# Altium footprint library stm8电机控制原理图.PcbLib: 34 footprints (part 1 of 3)
Each footprint in its own frame and in the unit in brackets; x right, y up, seen from the top. Pads: shape width x height; smd on the part's side, far side on the other; paste and mask are expansions set on the pad; w line width, h text height; cw(c..) or ccw(c..) is an arc to the next point about the centre after c.
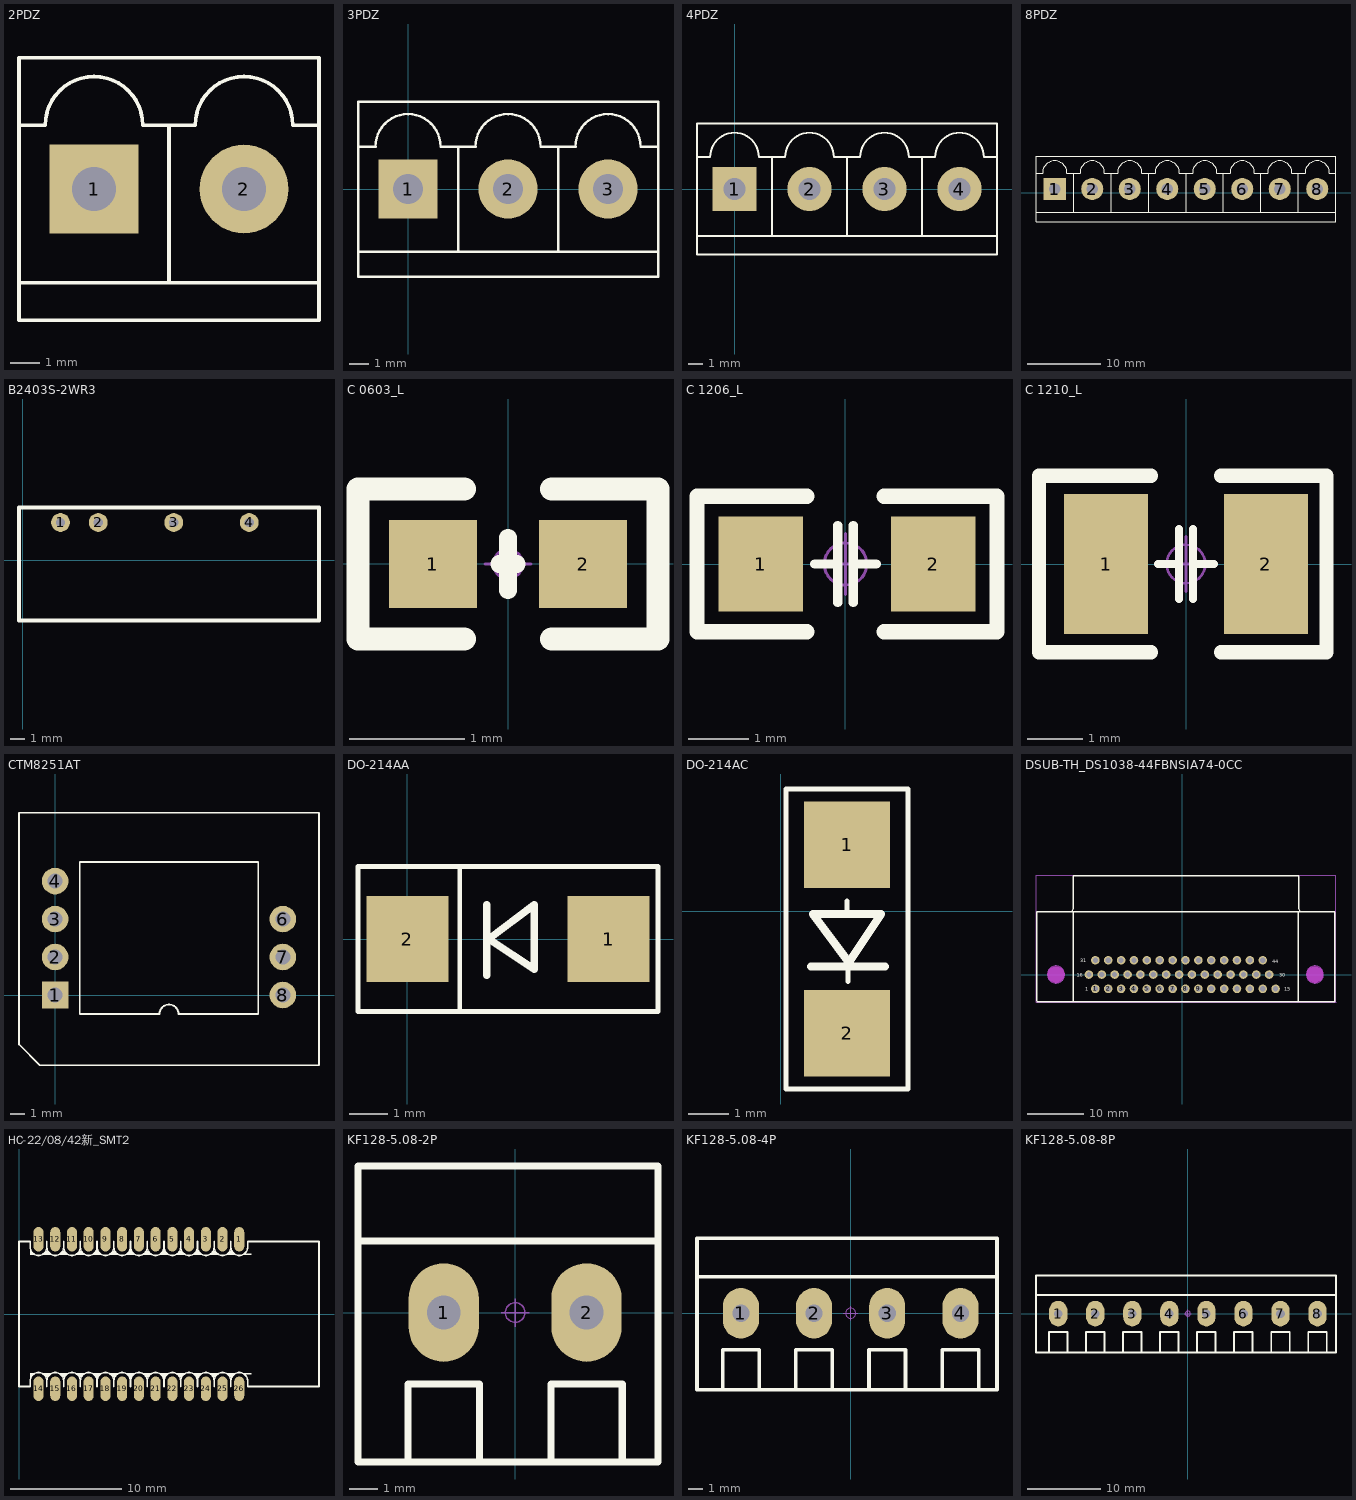
[diagram p0: the footprints below, top view; thin cyan lines are the x and y axes]

## 2PDZ [mm]
pads (2):
  rect 3x3 hole 1.5: 1(4.318,-8.763)
  round 3 hole 1.5: 2(9.398,-8.763)
Top Overlay:
  lines w0.127: 1.778,-11.938 6.858,-11.938 ; 1.778,-6.604 2.667,-6.604 cw(c4.318,-6.604) 5.969,-6.604 6.858,-6.604 ; 11.938,-11.938 6.858,-11.938 ; 11.938,-6.604 11.049,-6.604 ccw(c9.398,-6.604) 7.747,-6.604 6.858,-6.604 ; 6.858,-11.938 6.858,-6.604 ; 1.778,-13.208 1.778,-8.763 1.778,-4.318 11.938,-4.318 11.938,-13.208 1.778,-13.208

## 3PDZ [mm]
pads (3):
  rect 3x3 hole 1.5: 1(0,0)
  round 3 hole 1.5: 2(5.08,0) 3(10.16,0)
Top Overlay:
  lines w0.127: -2.54,-3.175 2.54,-3.175 ; -2.54,2.159 -1.651,2.159 cw(c0,2.159) 1.651,2.159 2.54,2.159 ; 7.62,-3.175 7.62,2.159 ; 2.54,-3.175 12.7,-3.175 ; 2.54,-3.175 2.54,2.159 ; 2.54,2.159 3.429,2.159 cw(c5.08,2.159) 6.731,2.159 8.509,2.159 cw(c10.16,2.159) 11.811,2.159 12.7,2.159 ; 12.7,-3.175 12.7,-4.445 -2.54,-4.445 -2.54,0 -2.54,4.445 12.7,4.445 12.7,2.159 ; 12.7,-3.175 12.7,2.159

## 4PDZ [mm]
pads (4):
  rect 3x3 hole 1.5: 1(0,0)
  round 3 hole 1.5: 2(5.08,0) 3(10.16,0) 4(15.24,0)
Top Overlay:
  lines w0.127: -2.54,-3.175 17.78,-3.175 ; -2.54,2.159 -1.651,2.159 cw(c0,2.159) 1.651,2.159 2.54,2.159 ; 2.54,-3.175 2.54,2.159 ; 7.62,-3.175 7.62,2.159 ; 12.7,-3.175 12.7,2.159 ; 17.78,2.159 16.891,2.159 ccw(c15.24,2.159) 13.589,2.159 11.811,2.159 ccw(c10.16,2.159) 8.509,2.159 6.731,2.159 ccw(c5.08,2.159) 3.429,2.159 2.54,2.159 ; -2.54,-4.445 -2.54,0 -2.54,4.445 17.78,4.445 17.78,-4.445 -2.54,-4.445

## 8PDZ [mm]
pads (8):
  rect 3x3 hole 1.5: 1(17.78,0.508)
  round 3 hole 1.5: 2(22.86,0.508) 3(27.94,0.508) 4(33.02,0.508) 5(38.1,0.508) 6(43.18,0.508) 7(48.26,0.508) 8(53.34,0.508)
Top Overlay:
  lines w0.127: 15.24,-2.667 35.56,-2.667 ; 15.24,2.667 16.129,2.667 cw(c17.78,2.667) 19.431,2.667 20.32,2.667 ; 20.32,-2.667 20.32,2.667 ; 25.4,-2.667 25.4,2.667 ; 30.48,-2.667 30.48,2.667 ; 40.64,-2.667 40.64,2.667 ; 45.72,-2.667 45.72,2.667 ; 50.8,-2.667 50.8,2.667 ; 55.88,-2.667 35.56,-2.667 ; 55.88,2.667 54.991,2.667 ccw(c53.34,2.667) 51.689,2.667 49.911,2.667 ccw(c48.26,2.667) 46.609,2.667 44.831,2.667 ccw(c43.18,2.667) 41.529,2.667 40.64,2.667 ; 20.32,2.667 21.209,2.667 cw(c22.86,2.667) 24.511,2.667 26.289,2.667 cw(c27.94,2.667) 29.591,2.667 31.369,2.667 cw(c33.02,2.667) 34.671,2.667 35.56,2.667 ; 35.56,-2.667 35.56,2.667 ; 35.56,2.667 36.449,2.667 cw(c38.1,2.667) 39.751,2.667 40.64,2.667 ; 15.24,-3.937 35.56,-3.937 55.88,-3.937 55.88,4.953 35.56,4.953 15.24,4.953 15.24,0.508 15.24,-3.937

## B2403S-2WR3 [mil]
pads (4):
  round 50 hole 25: 1(100,100) 2(200,100) 3(400,100) 4(600,100)
Top Overlay:
  lines w10: -10,-160 -10,140 785,140 785,-160 -10,-160
3D body "B2403S-2WR3.STEP": height 374.02, standoff -161.42, extent 1.14,-147.79 768.86,127.8

## C 0603_L [mil]
height 322.83
pads (2):
  rect 30x30 smd: 1(-25.59,0) 2(25.59,0)
Top Overlay:
  lines w6: -3,0 0,0 3,0 ; 0,-9 0,9
  lines w8: -15,-25.59 -51.18,-25.59 -51.18,25.59 -15,25.59 ; 15,-25.59 51.18,-25.59 51.18,25.59 15,25.59
Mechanical 15:
  circle w1: c0,0 r5
  lines w1: -7.87,0 7.87,0 ; 0,-7.87 0,7.87
3D body "C 0603.STEP": height 31.89, standoff -0.39, extent -31.5,-16.14 31.5,16.14

## C 1206_L [mil] "无极性贴片电容"
height 322.83
pads (2):
  rect 55x62 smd: 1(-55.12,0) 2(57.09,0)
Top Overlay:
  lines w6: -20,0 -5,0 ; -5,-25 -5,25 ; 5,-25 5,25 ; 5,0 20,0
  lines w10: -25,-44 -96.46,-44 -96.46,44 -25,44 ; 25,-44 96.46,-44 ; 25,44 96.46,44 ; 98.43,-44 98.43,44
Mechanical 15:
  circle w1.97: c0,0 r13.78
  lines w1.97: -19.68,0 19.68,0 ; 0,-19.68 0,19.68
3D body "C 1206.STEP": height 47.64, standoff -0.39, extent -62.99,-31.89 62.99,31.89

## C 1210_L [mil] "无极性贴片电容"
height 322.83
pads (2):
  rect 60x100 smd: 1(-57.09,0) 2(57.09,0)
Top Overlay:
  lines w6: -20,0 -5,0 ; -5,-25 -5,25 ; 5,-25 5,25 ; 5,0 20,0
  lines w10: -25,-63 -105,-63 -105,63 -25,63 ; 25,-63 100.39,-63 100.39,63 25,63
Mechanical 15:
  circle w1.97: c0,0 r13.78
  lines w1.97: -19.68,0 19.68,0 ; 0,-19.68 0,19.68
3D body "C 1210.STEP": height 60.43, standoff 0.2, extent -62.99,-50.59 62.99,50.59

## CTM8251AT [mil]
pads (7):
  rect 70x70 hole 40: 1(0,0)
  round 70 hole 40: 2(0,100) 3(0,200) 4(0,300) 6(600,200) 7(600,100) 8(600,0)
Top Overlay:
  lines w5: -95,-130 -95,480 -5,480 695,480 695,-185 -40,-185 -95,-130 ; 65,-50 275,-50 cw(c300,-50) 325,-50 535,-50 535,350 325,350 275,350 65,350 65,-50

## DO-214AA [mm]
pads (2):
  rect 2.16x2.26 smd: 1(5.3,0) 2(0,0)
Top Overlay:
  lines w0.127: 1.38,-1.905 1.38,1.905 ; -1.3,-1.905 -1.3,1.905 6.6,1.905 6.6,-1.905 -1.3,-1.905
  lines w0.2: 2.092,-0.95 2.092,0.9 ; 2.142,0 3.342,0.9 3.342,-0.8 2.142,0

## DO-214AC [mil]
pads (2):
  rect 85x85 smd: 1(65,65) 2(65,-120)
Top Overlay:
  lines w5: 65,-3.15 65,10 ; 65.98,-69.02 65.98,-54.33 ; 5,-175 125,-175 125,115 125,120 5,120 5,115 5,-175
  lines w7.87: 29.57,-54.33 102.4,-54.33 ; 31.54,-3.15 66.97,-50.39 98.47,-3.15 31.54,-3.15

## DSUB-TH_DS1038-44FBNSIA74-0CC [mil]
pads (44):
  round 60 hole 36 mask+2: 1(-608.6,-100) 2(-518.4,-100) 3(-428.3,-100) 4(-338.1,-100) 5(-247.9,-100) 6(-157.8,-100) 7(-67.6,-100) 8(22.5,-100) 9(112.7,-100) 10(202.9,-100) 11(293,-100) 12(383.2,-100) 13(473.3,-100) 14(563.5,-100) 15(653.6,-100) 16(-653.6,0) 17(-563.5,0) 18(-473.3,0) 19(-383.2,0) 20(-293,0) 21(-202.9,0) 22(-112.7,0) 23(-22.5,0) 24(67.6,0) 25(157.8,0) 26(247.9,0) 27(338.1,0) 28(428.3,0) 29(518.4,0) 30(608.6,0) 31(-608.6,100) 32(-518.4,100) 33(-428.2,100) 34(-338.1,100) 35(-247.9,100) 36(-157.8,100) 37(-67.6,100) 38(22.5,100) 39(112.7,100) 40(202.9,100) 41(293,100) 42(383.2,100) 43(473.3,100) 44(563.5,100)
Top Overlay:
  lines w10: -1019.1,-190 1069.1,-190 ; -1019.1,-184 -1019.1,440.2 1069.1,440.2 1069.1,-190.2 ; -775,440 -765,460 -765,690 -755,690 ; -762.4,-190.2 -762.4,440 ; -762.4,690 812.4,690 ; 805,690 815,690 815,460 825,440 ; 812.4,-190.2 812.4,440
  text "1" at -680,-115 h25.76
  text "15" at 715,-115 h25.57
  text "30" at 680,-15 h25.57
  text "44" at 630,80 h25.57
  text "16" at -740,-15 h25.57
  text "31" at -715,85 h25.57
Keep-Out Layer:
  board cut-out: -823.8,0 -823.8,5.91 -826.11,17.5 -830.63,28.42 -837.19,38.25 -845.55,46.6 -855.38,53.17 -866.3,57.69 -877.89,60 -889.71,60 -901.3,57.69 -912.22,53.17 -922.05,46.6 -930.4,38.25 -936.97,28.42 -941.49,17.5 -943.8,5.91 -943.8,0 -943.8,-5.91 -941.49,-17.5 -936.97,-28.42 -930.4,-38.25 -922.05,-46.6 -912.22,-53.17 -901.3,-57.69 -889.71,-60 -877.89,-60 -866.3,-57.69 -855.38,-53.17 -845.55,-46.6 -837.19,-38.25 -830.63,-28.42 -826.11,-17.5 -823.8,-5.91
  board cut-out: 988.8,0 988.8,5.91 986.49,17.5 981.97,28.42 975.4,38.25 967.05,46.6 957.22,53.17 946.3,57.69 934.71,60 922.89,60 911.3,57.69 900.38,53.17 890.55,46.6 882.19,38.25 875.63,28.42 871.11,17.5 868.8,5.91 868.8,0 868.8,-5.91 871.11,-17.5 875.63,-28.42 882.19,-38.25 890.55,-46.6 900.38,-53.17 911.3,-57.69 922.89,-60 934.71,-60 946.3,-57.69 957.22,-53.17 967.05,-46.6 975.4,-38.25 981.97,-28.42 986.49,-17.5 988.8,-5.91
Mechanical 1:
  circle w0.2: c-883.8,0 r60
  circle w0.2: c928.8,0 r60
Mechanical 15:
  drawing of 51 lines, arcs and shapes, not listed

## HC-22/08/42新_SMT2 [mm]
pads (26):
  oval 0.9x2.2 smd: 1(19.75,6.7) 2(18.25,6.7) 3(16.75,6.7) 4(15.25,6.7) 5(13.75,6.7) 6(12.25,6.7) 7(10.75,6.7) 8(9.25,6.7) 9(7.75,6.7) 10(6.25,6.7) 11(4.75,6.7) 12(3.25,6.7) 13(1.75,6.7) 14(1.75,-6.7) 15(3.25,-6.7) 16(4.75,-6.7) 17(6.25,-6.7) 18(7.75,-6.7) 19(9.25,-6.7) 20(10.75,-6.7) 21(12.25,-6.7) 22(13.75,-6.7) 23(15.25,-6.7) 24(16.75,-6.7) 25(18.25,-6.7) 26(19.75,-6.7)
Top Overlay:
  rectangle: 2.15,5.275 2.85,5.425
  rectangle: 2.34,5.4 2.66,5.66
  rectangle: 3.65,5.275 4.35,5.425
  rectangle: 3.84,5.4 4.16,5.66
  rectangle: 5.15,5.275 5.85,5.425
  rectangle: 5.34,5.4 5.66,5.66
  rectangle: 6.65,5.275 7.35,5.425
  rectangle: 6.84,5.4 7.16,5.66
  rectangle: 8.15,5.275 8.85,5.425
  rectangle: 8.34,5.4 8.66,5.66
  rectangle: 9.65,5.275 10.35,5.425
  rectangle: 9.84,5.4 10.16,5.66
  rectangle: 11.15,5.275 11.85,5.425
  rectangle: 11.34,5.4 11.66,5.66
  rectangle: 12.65,5.275 13.35,5.425
  rectangle: 12.84,5.4 13.16,5.66
  rectangle: 14.15,5.275 14.85,5.425
  rectangle: 14.34,5.4 14.66,5.66
  rectangle: 15.65,5.275 16.35,5.425
  rectangle: 15.84,5.4 16.16,5.66
  rectangle: 17.15,5.275 17.85,5.425
  rectangle: 17.34,5.4 17.66,5.66
  rectangle: 18.65,5.275 19.35,5.425
  rectangle: 18.84,5.4 19.16,5.66
  rectangle: 20.15,5.275 20.85,5.425
  rectangle: 2.15,-5.425 2.85,-5.275
  rectangle: 2.34,-5.66 2.66,-5.4
  rectangle: 3.65,-5.425 4.35,-5.275
  rectangle: 3.84,-5.66 4.16,-5.4
  rectangle: 5.15,-5.425 5.85,-5.275
  rectangle: 5.34,-5.66 5.66,-5.4
  rectangle: 6.65,-5.425 7.35,-5.275
  rectangle: 6.84,-5.66 7.16,-5.4
  rectangle: 8.15,-5.425 8.85,-5.275
  rectangle: 8.34,-5.66 8.66,-5.4
  rectangle: 9.65,-5.425 10.35,-5.275
  rectangle: 9.84,-5.66 10.16,-5.4
  rectangle: 11.15,-5.425 11.85,-5.275
  rectangle: 11.34,-5.66 11.66,-5.4
  rectangle: 12.65,-5.425 13.35,-5.275
  rectangle: 12.84,-5.66 13.16,-5.4
  rectangle: 14.15,-5.425 14.85,-5.275
  rectangle: 14.34,-5.66 14.66,-5.4
  rectangle: 15.65,-5.425 16.35,-5.275
  rectangle: 15.84,-5.66 16.16,-5.4
  rectangle: 17.15,-5.425 17.85,-5.275
  rectangle: 17.34,-5.66 17.66,-5.4
  rectangle: 18.65,-5.425 19.35,-5.275
  rectangle: 18.84,-5.66 19.16,-5.4
  rectangle: 20.15,-5.425 20.85,-5.275
  rectangle: 1,5.3 1.325,5.475
  rectangle: 1,5.475 1.15,5.675
  rectangle: 1,-5.475 1.325,-5.3
  rectangle: 1,-5.675 1.15,-5.475
  lines w0.152: 2.5,-6.5 2.5,-6 ; 2.5,6 2.5,6.5 ; 2.5,-6.5 2.5,-5.85 ; 2.5,6.5 2.5,6 ; 20.5,-6 ccw(c19.75,-6) 19,-6 ccw(c18.25,-6) 17.5,-6 ccw(c16.75,-6) 16,-6 ccw(c15.25,-6) 14.5,-6 ccw(c13.75,-6) 13,-6 ccw(c12.25,-6) 11.5,-6 ccw(c10.75,-6) 10,-6 ccw(c9.25,-6) 8.5,-6 ccw(c7.75,-6) 7,-6 ccw(c6.25,-6) 5.5,-6 ccw(c4.75,-6) 4,-6 ccw(c3.25,-6) 2.5,-6 ccw(c1.75,-6) 1,-6 1,-6.5 0,-6.5 0,6.5 1,6.5 1,6 ccw(c1.75,6) 2.5,6 ; 20.5,-5.85 20.5,-6.5 26.9,-6.5 26.9,6.5 20.5,6.5 20.5,6 cw(c19.75,6) 19,6 ; 2.5,6 ccw(c3.25,6) 4,6 ; 4,6 ccw(c4.75,6) 5.5,6 ; 4,6 4,6.5 4,6 ; 5.5,6 ccw(c6.25,6) 7,6 ; 5.5,6 5.5,6.5 5.5,6 ; 7,6 ccw(c7.75,6) 8.5,6 ; 7,6 7,6.5 7,6 ; 8.5,6 ccw(c9.25,6) 10,6 ; 8.5,6 8.5,6.5 8.5,6 ; 10,6 ccw(c10.75,6) 11.5,6 ; 10,6 10,6.5 10,6 ; 11.5,6 ccw(c12.25,6) 13,6 ; 11.5,6 11.5,6.5 11.5,6 ; 13,6 ccw(c13.75,6) 14.5,6 ; 13,6 13,6.5 13,6 ; 14.5,6 ccw(c15.25,6) 16,6 ; 14.5,6 14.5,6.5 14.5,6 ; 16,6 ccw(c16.75,6) 17.5,6 ; 16,6 16,6.5 16,6 ; 17.5,6 ccw(c18.25,6) 19,6 ; 17.5,6 17.5,6.5 17.5,6 ; 19,6 19,6.5 19,6 ; 4,-6.5 4,-5.85 4,-6.5 ; 5.5,-6.5 5.5,-5.85 5.5,-6.5 ; 7,-6.5 7,-5.85 7,-6.5 ; 8.5,-6.5 8.5,-5.85 8.5,-6.5 ; 10,-6.5 10,-5.85 10,-6.5 ; 11.5,-6.5 11.5,-5.85 11.5,-6.5 ; 13,-6.5 13,-5.85 13,-6.5 ; 14.5,-6.5 14.5,-5.85 14.5,-6.5 ; 16,-6.5 16,-5.85 16,-6.5 ; 17.5,-6.5 17.5,-5.85 17.5,-6.5 ; 19,-6.5 19,-5.85 19,-6.5

## KF128-5.08-2P [mm] "螺钉式接线端子，脚距5.08mm"
height 8.2
pads (2):
  oval 2.5x3.5 hole 1.2: 1(-2.54,0) 2(2.54,0)
Top Overlay:
  lines w0.254: -5.588,2.54 5.08,2.54 ; -3.81,-5.309 -3.81,-2.54 -1.27,-2.54 -1.27,-5.309 ; 1.27,-5.309 1.27,-2.54 3.81,-2.54 3.81,-5.309 ; -5.588,-5.309 -5.588,5.207 5.08,5.207 5.08,-5.309 -5.588,-5.309
Mechanical 15:
  circle w0.05: c0,0 r0.35
  lines w0.05: -0.5,0 0.5,0 ; 0,-0.5 0,0.5
3D body "KF128-5.08.STEP": height 14.15, standoff -3.95, extent -5.58,-5.3 0,5.2
3D body "KF128-5.08.STEP": height 14.15, standoff -3.95, extent -0.5,-5.3 5.08,5.2

## KF128-5.08-4P [mm] "螺钉式接线端子，脚距5.08mm"
pads (4):
  oval 2.5x3.5 hole 1.2: 1(-7.62,0) 2(-2.54,0) 3(2.54,0) 4(7.62,0)
Top Overlay:
  lines w0.254: -10.668,2.54 10.16,2.54 ; -8.89,-5.309 -8.89,-2.54 -6.35,-2.54 -6.35,-5.309 ; -3.81,-5.309 -3.81,-2.54 -1.27,-2.54 -1.27,-5.309 ; 1.27,-5.309 1.27,-2.54 3.81,-2.54 3.81,-5.309 ; 6.35,-5.309 6.35,-2.54 8.89,-2.54 8.89,-5.309 ; -10.668,-5.309 10.16,-5.309 10.16,5.207 -10.668,5.207 -10.668,-5.309
Mechanical 15:
  circle w0.05: c0,0 r0.35
  lines w0.05: -0.5,0 0.5,0 ; 0,-0.5 0,0.5
3D body "KF128-5.08.STEP": height 14.15, standoff -3.95, extent 4.58,-5.3 10.16,5.2
3D body "KF128-5.08.STEP": height 14.15, standoff -3.95, extent -5.58,-5.3 0,5.2
3D body "KF128-5.08.STEP": height 14.15, standoff -3.95, extent -10.66,-5.3 -5.08,5.2
3D body "KF128-5.08.STEP": height 14.15, standoff -3.95, extent -0.5,-5.3 5.08,5.2

## KF128-5.08-8P [mm] "螺钉式接线端子，脚距5.08mm"
height 8.2
pads (8):
  oval 2.5x3.5 hole 1.2: 1(-17.78,0) 2(-12.7,0) 3(-7.62,0) 4(-2.54,0) 5(2.54,0) 6(7.62,0) 7(12.7,0) 8(17.78,0)
Top Overlay:
  lines w0.254: -20.828,2.54 20.32,2.54 ; -19.05,-5.309 -19.05,-2.54 -16.51,-2.54 -16.51,-5.309 ; -13.97,-5.309 -13.97,-2.54 -11.43,-2.54 -11.43,-5.309 ; -8.89,-5.309 -8.89,-2.54 -6.35,-2.54 -6.35,-5.309 ; -3.81,-5.309 -3.81,-2.54 -1.27,-2.54 -1.27,-5.309 ; 1.27,-5.309 1.27,-2.54 3.81,-2.54 3.81,-5.309 ; 6.35,-5.309 6.35,-2.54 8.89,-2.54 8.89,-5.309 ; 11.43,-5.309 11.43,-2.54 13.97,-2.54 13.97,-5.309 ; 16.51,-5.309 16.51,-2.54 19.05,-2.54 19.05,-5.309 ; -20.828,-5.309 20.32,-5.309 20.32,5.207 -20.828,5.207 -20.828,-5.309
Mechanical 15:
  circle w0.05: c0,0 r0.35
  lines w0.05: -0.5,0 0.5,0 ; 0,-0.5 0,0.5
3D body "KF128-5.08.STEP": height 14.15, standoff -3.95, extent 9.66,-5.3 15.24,5.2
3D body "KF128-5.08.STEP": height 14.15, standoff -3.95, extent -0.5,-5.3 5.08,5.2
3D body "KF128-5.08.STEP": height 14.15, standoff -3.95, extent -5.58,-5.3 0,5.2
3D body "KF128-5.08.STEP": height 14.15, standoff -3.95, extent -15.74,-5.3 -10.16,5.2
3D body "KF128-5.08.STEP": height 14.15, standoff -3.95, extent -20.82,-5.3 -15.24,5.2
3D body "KF128-5.08.STEP": height 14.15, standoff -3.95, extent -10.66,-5.3 -5.08,5.2
3D body "KF128-5.08.STEP": height 14.15, standoff -3.95, extent 4.58,-5.3 10.16,5.2
3D body "KF128-5.08.STEP": height 14.15, standoff -3.95, extent 14.74,-5.3 20.32,5.2